# Altium footprint library X.PcbLib: 77 footprints (part 4 of 5)
Each footprint in its own frame and in the unit in brackets; x right, y up, seen from the top. Pads: shape width x height; smd on the part's side, far side on the other; paste and mask are expansions set on the pad; w line width, h text height; cw(c..) or ccw(c..) is an arc to the next point about the centre after c.
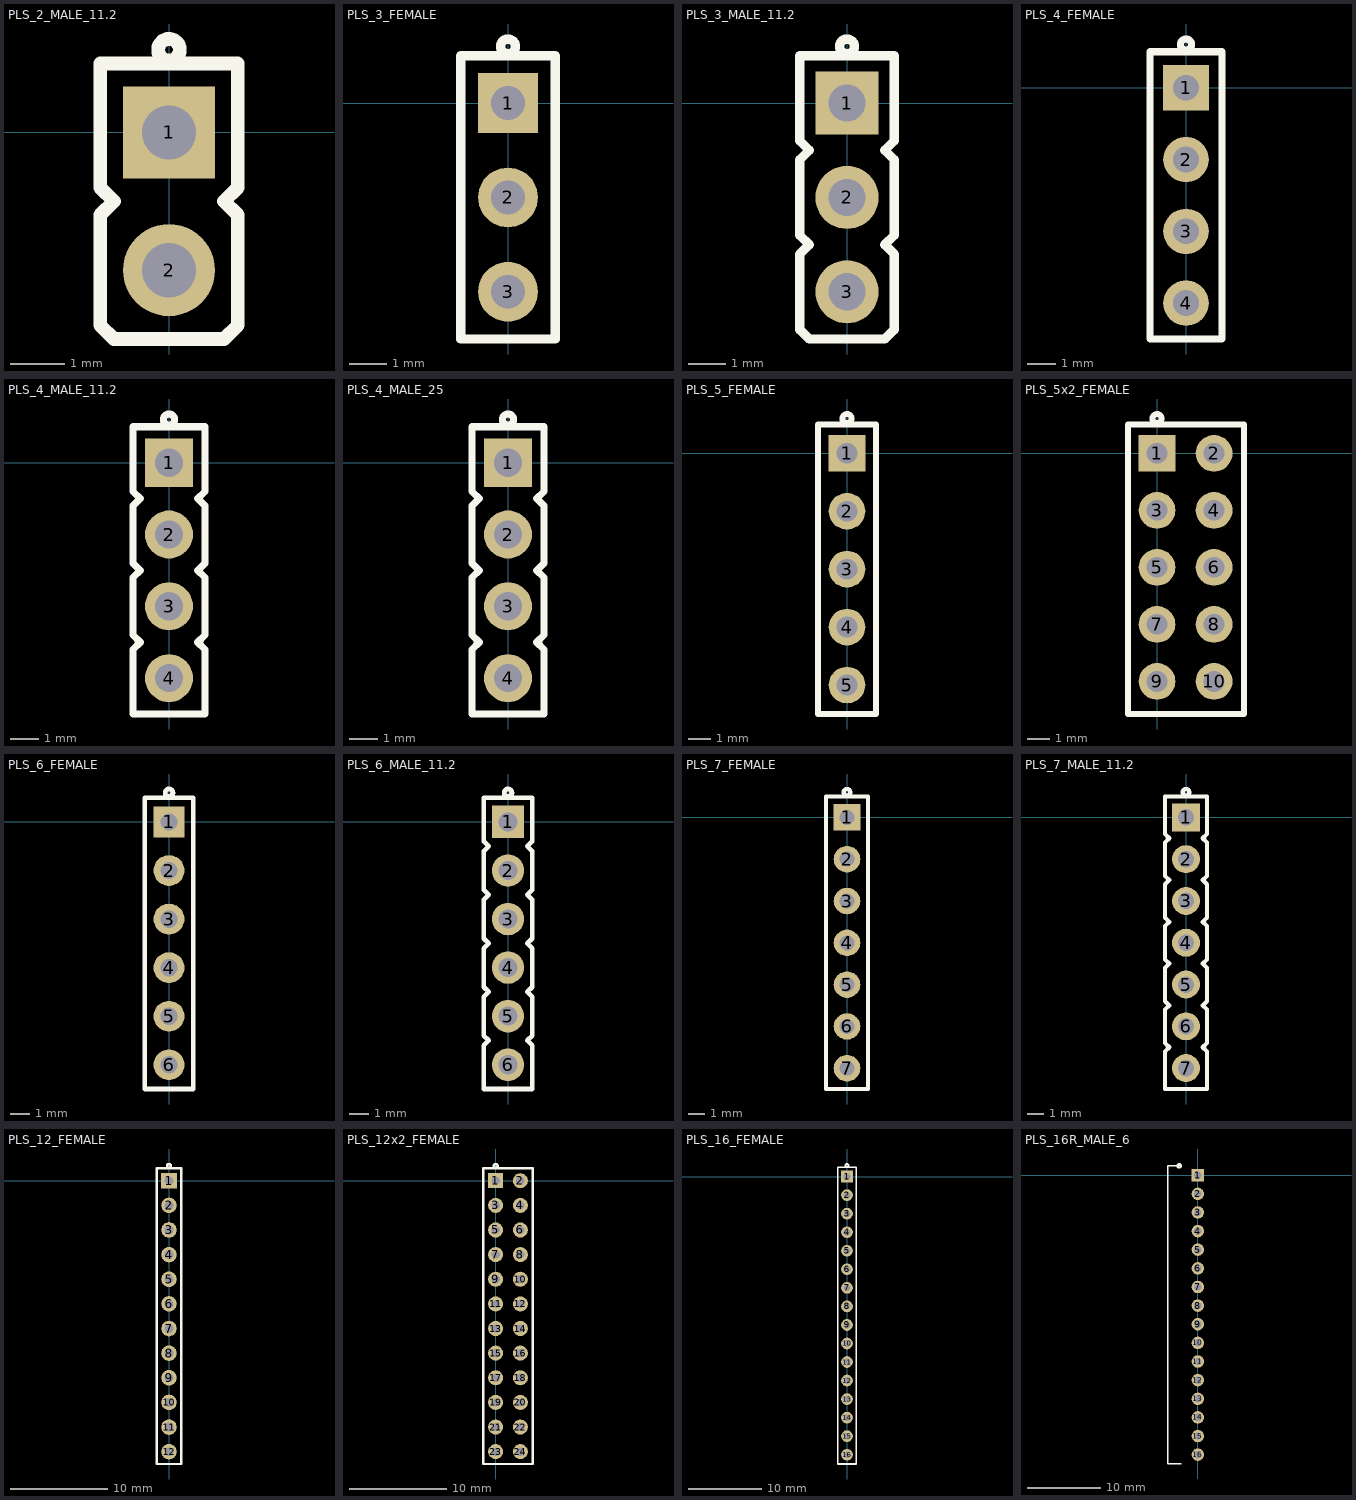
[diagram p3: the footprints below, top view; thin cyan lines are the x and y axes]

## PLS_2_MALE_11.2 [mm]
height 11.2
pads (2):
  rect 1.7x1.7 hole 1: 1(0,0)
  round 1.7 hole 1: 2(0,-2.54)
Top Overlay:
  circle w0.254: c0,1.524 r0.2
  lines w0.254: -1.27,-3.556 -1.016,-3.81 1.016,-3.81 1.27,-3.556 1.27,-1.524 1.016,-1.27 1.27,-1.016 1.27,1.27 -1.27,1.27 -1.27,-1.016 -1.016,-1.27 -1.27,-1.524 -1.27,-3.556
3D body: height 2, standoff 0, extent -1.27,-3.81 1.27,-1.27
3D body: height 11, standoff 0, extent -0.496,-3.039 0.5,-2.041
3D body: height 11, standoff 0, extent -0.496,-0.499 0.5,0.499
3D body: height 2, standoff 0, extent -1.27,-1.27 1.27,1.27

## PLS_3_FEMALE [mm]
pads (3):
  rect 1.61x1.61 hole 0.91: 1(0,0)
  round 1.61 hole 0.91: 2(0,-2.54) 3(0,-5.08)
Top Overlay:
  circle w0.254: c0,1.524 r0.2
  lines w0.254: -1.27,-6.35 1.27,-6.35 1.27,1.27 -1.27,1.27 -1.27,-6.35
3D body: height 8.5, standoff 0, extent -1.27,-6.35 -0.889,1.27
3D body: height 8.5, standoff 0, extent 0.889,-6.35 1.27,1.27
3D body: height 8.5, standoff 0, extent -1.016,1.016 1.016,1.27
3D body: height 8.5, standoff 0, extent -1.016,-1.397 1.016,-1.143
3D body: height 8.5, standoff 0, extent -1.016,-3.937 1.016,-3.683
3D body: height 8.5, standoff 0, extent -1.016,-6.35 1.016,-6.096

## PLS_3_MALE_11.2 [mm]
height 11.2
pads (3):
  rect 1.7x1.7 hole 1: 1(0,0)
  round 1.7 hole 1: 2(0,-2.54) 3(0,-5.08)
Top Overlay:
  circle w0.254: c0,1.524 r0.2
  lines w0.254: -1.27,-6.096 -1.016,-6.35 1.016,-6.35 1.27,-6.096 1.27,-4.064 1.016,-3.81 1.27,-3.556 1.27,-1.524 1.016,-1.27 1.27,-1.016 1.27,1.27 -1.27,1.27 -1.27,-1.016 -1.016,-1.27 -1.27,-1.524 -1.27,-3.556 -1.016,-3.81 -1.27,-4.064 -1.27,-6.096
3D body: height 2, standoff 0, extent -1.27,-6.35 1.27,-3.81
3D body: height 11, standoff 0, extent -0.496,-5.579 0.5,-4.581
3D body: height 2, standoff 0, extent -1.27,-3.81 1.27,-1.27
3D body: height 11, standoff 0, extent -0.496,-3.039 0.5,-2.041
3D body: height 11, standoff 0, extent -0.496,-0.499 0.5,0.499
3D body: height 2, standoff 0, extent -1.27,-1.27 1.27,1.27

## PLS_4_FEMALE [mm]
pads (4):
  rect 1.61x1.61 hole 0.91: 1(0,0)
  round 1.61 hole 0.91: 2(0,-2.54) 3(0,-5.08) 4(0,-7.62)
Top Overlay:
  circle w0.254: c0,1.524 r0.2
  lines w0.254: -1.27,-8.89 -1.27,1.27 1.27,1.27 1.27,-8.89 -1.27,-8.89
3D body: height 8.5, standoff 0, extent -1.27,-8.89 -0.889,1.27
3D body: height 8.5, standoff 0, extent 0.889,-8.89 1.27,1.27
3D body: height 8.5, standoff 0, extent -1.016,1.016 1.016,1.27
3D body: height 8.5, standoff 0, extent -1.016,-1.397 1.016,-1.143
3D body: height 8.5, standoff 0, extent -1.016,-3.937 1.016,-3.683
3D body: height 8.5, standoff 0, extent -1.016,-6.477 1.016,-6.223
3D body: height 8.5, standoff 0, extent -1.016,-8.89 1.016,-8.636

## PLS_4_MALE_11.2 [mm]
height 11.2
pads (4):
  rect 1.7x1.7 hole 1: 1(0,0)
  round 1.7 hole 1: 2(0,-2.54) 3(0,-5.08) 4(0,-7.62)
Top Overlay:
  circle w0.254: c0,1.524 r0.2
  lines w0.254: -1.27,-8.89 1.27,-8.89 1.27,-6.604 1.016,-6.35 1.27,-6.096 1.27,-4.064 1.016,-3.81 1.27,-3.556 1.27,-1.524 1.016,-1.27 1.27,-1.016 1.27,1.27 -1.27,1.27 -1.27,-1.016 -1.016,-1.27 -1.27,-1.524 -1.27,-3.556 -1.016,-3.81 -1.27,-4.064 -1.27,-6.096 -1.016,-6.35 -1.27,-6.604 -1.27,-8.89
3D body: height 2, standoff 0, extent -1.27,-8.89 1.27,-6.35
3D body: height 11, standoff 0, extent -0.496,-8.119 0.5,-7.121
3D body: height 2, standoff 0, extent -1.27,-6.35 1.27,-3.81
3D body: height 11, standoff 0, extent -0.496,-5.579 0.5,-4.581
3D body: height 2, standoff 0, extent -1.27,-3.81 1.27,-1.27
3D body: height 11, standoff 0, extent -0.496,-3.039 0.5,-2.041
3D body: height 11, standoff 0, extent -0.496,-0.499 0.5,0.499
3D body: height 2, standoff 0, extent -1.27,-1.27 1.27,1.27

## PLS_4_MALE_25 [mm]
height 25
pads (4):
  rect 1.7x1.7 hole 1: 1(0,0)
  round 1.7 hole 1: 2(0,-2.54) 3(0,-5.08) 4(0,-7.62)
Top Overlay:
  circle w0.254: c0,1.524 r0.2
  lines w0.254: -1.27,-8.89 1.27,-8.89 1.27,-6.604 1.016,-6.35 1.27,-6.096 1.27,-4.064 1.016,-3.81 1.27,-3.556 1.27,-1.524 1.016,-1.27 1.27,-1.016 1.27,1.27 -1.27,1.27 -1.27,-1.016 -1.016,-1.27 -1.27,-1.524 -1.27,-3.556 -1.016,-3.81 -1.27,-4.064 -1.27,-6.096 -1.016,-6.35 -1.27,-6.604 -1.27,-8.89
3D body: height 2, standoff 0, extent -1.27,-8.89 1.27,-6.35
3D body: height 25, standoff 0, extent -0.496,-8.119 0.5,-7.121
3D body: height 2, standoff 0, extent -1.27,-6.35 1.27,-3.81
3D body: height 25, standoff 0, extent -0.496,-5.579 0.5,-4.581
3D body: height 2, standoff 0, extent -1.27,-3.81 1.27,-1.27
3D body: height 25, standoff 0, extent -0.496,-3.039 0.5,-2.041
3D body: height 25, standoff 0, extent -0.496,-0.499 0.5,0.499
3D body: height 2, standoff 0, extent -1.27,-1.27 1.27,1.27

## PLS_5_FEMALE [mm]
pads (5):
  rect 1.61x1.61 hole 0.91: 1(0,0)
  round 1.61 hole 0.91: 2(0,-2.54) 3(0,-5.08) 4(0,-7.62) 5(0,-10.16)
Top Overlay:
  circle w0.254: c0,1.524 r0.2
  lines w0.254: -1.27,-11.43 1.27,-11.43 1.27,1.27 -1.27,1.27 -1.27,-11.43
3D body: height 8.5, standoff 0, extent -1.27,-11.43 -0.889,1.27
3D body: height 8.5, standoff 0, extent 0.889,-11.43 1.27,1.27
3D body: height 8.5, standoff 0, extent -1.016,1.016 1.016,1.27
3D body: height 8.5, standoff 0, extent -1.016,-1.397 1.016,-1.143
3D body: height 8.5, standoff 0, extent -1.016,-3.937 1.016,-3.683
3D body: height 8.5, standoff 0, extent -1.016,-6.477 1.016,-6.223
3D body: height 8.5, standoff 0, extent -1.016,-9.017 1.016,-8.763
3D body: height 8.5, standoff 0, extent -1.016,-11.43 1.016,-11.176

## PLS_5x2_FEMALE [mm]
pads (10):
  rect 1.61x1.61 hole 0.91: 1(0,0)
  round 1.61 hole 0.91: 2(2.5,0) 3(0,-2.5) 4(2.5,-2.5) 5(0,-5) 6(2.5,-5) 7(0,-7.5) 8(2.5,-7.5) 9(0,-10) 10(2.5,-10)
Top Overlay:
  circle w0.254: c0,1.524 r0.2
  lines w0.254: -1.27,-11.43 3.81,-11.43 3.81,1.27 -1.27,1.27 -1.27,-11.43
3D body: height 8.5, standoff 0, extent 1.27,-11.43 1.651,1.27
3D body: height 8.5, standoff 0, extent 3.429,-11.43 3.81,1.27
3D body: height 8.5, standoff 0, extent 1.524,1.016 3.556,1.27
3D body: height 8.5, standoff 0, extent 1.524,-1.397 3.556,-1.143
3D body: height 8.5, standoff 0, extent 1.524,-3.937 3.556,-3.683
3D body: height 8.5, standoff 0, extent 1.524,-6.477 3.556,-6.223
3D body: height 8.5, standoff 0, extent 1.524,-9.017 3.556,-8.763
3D body: height 8.5, standoff 0, extent 1.524,-11.43 3.556,-11.176
3D body: height 8.5, standoff 0, extent -1.27,-11.43 -0.889,1.27
3D body: height 8.5, standoff 0, extent 0.889,-11.43 1.27,1.27
3D body: height 8.5, standoff 0, extent -1.016,1.016 1.016,1.27
3D body: height 8.5, standoff 0, extent -1.016,-1.397 1.016,-1.143
3D body: height 8.5, standoff 0, extent -1.016,-3.937 1.016,-3.683
3D body: height 8.5, standoff 0, extent -1.016,-6.477 1.016,-6.223
3D body: height 8.5, standoff 0, extent -1.016,-9.017 1.016,-8.763
3D body: height 8.5, standoff 0, extent -1.016,-11.43 1.016,-11.176

## PLS_6_FEMALE [mm]
pads (6):
  rect 1.61x1.61 hole 0.91: 1(0,0)
  round 1.61 hole 0.91: 2(0,-2.54) 3(0,-5.08) 4(0,-7.62) 5(0,-10.16) 6(0,-12.7)
Top Overlay:
  circle w0.254: c0,1.524 r0.2
  lines w0.254: -1.27,-13.97 1.27,-13.97 1.27,1.27 -1.27,1.27 -1.27,-13.97
3D body: height 8.5, standoff 0, extent -1.27,-13.97 -0.889,1.27
3D body: height 8.5, standoff 0, extent 0.889,-13.97 1.27,1.27
3D body: height 8.5, standoff 0, extent -1.016,1.016 1.016,1.27
3D body: height 8.5, standoff 0, extent -1.016,-1.397 1.016,-1.143
3D body: height 8.5, standoff 0, extent -1.016,-3.937 1.016,-3.683
3D body: height 8.5, standoff 0, extent -1.016,-6.477 1.016,-6.223
3D body: height 8.5, standoff 0, extent -1.016,-9.017 1.016,-8.763
3D body: height 8.5, standoff 0, extent -1.016,-11.557 1.016,-11.303
3D body: height 8.5, standoff 0, extent -1.016,-13.97 1.016,-13.716

## PLS_6_MALE_11.2 [mm]
height 11.2
pads (6):
  rect 1.7x1.7 hole 1: 1(0,0)
  round 1.7 hole 1: 2(0,-2.54) 3(0,-5.08) 4(0,-7.62) 5(0,-10.16) 6(0,-12.7)
Top Overlay:
  circle w0.254: c0,1.524 r0.2
  lines w0.254: -1.27,-13.97 -1.27,-11.684 -1.016,-11.43 -1.27,-11.176 -1.27,-9.144 -1.016,-8.89 -1.27,-8.636 -1.27,-6.604 -1.016,-6.35 -1.27,-6.096 -1.27,-4.064 -1.016,-3.81 -1.27,-3.556 -1.27,-1.524 -1.016,-1.27 -1.27,-1.016 -1.27,1.27 1.27,1.27 1.27,-1.016 1.016,-1.27 1.27,-1.524 1.27,-3.556 1.016,-3.81 1.27,-4.064 1.27,-6.096 1.016,-6.35 1.27,-6.604 1.27,-8.636 1.016,-8.89 1.27,-9.144 1.27,-11.176 1.016,-11.43 1.27,-11.684 1.27,-13.97 -1.27,-13.97
3D body: height 2, standoff 0, extent -1.27,-1.27 1.27,1.27
3D body: height 11, standoff 0, extent -0.496,-0.499 0.5,0.499
3D body: height 11, standoff 0, extent -0.496,-3.039 0.5,-2.041
3D body: height 2, standoff 0, extent -1.27,-3.81 1.27,-1.27
3D body: height 11, standoff 0, extent -0.496,-5.579 0.5,-4.581
3D body: height 2, standoff 0, extent -1.27,-6.35 1.27,-3.81
3D body: height 11, standoff 0, extent -0.496,-13.199 0.5,-12.201
3D body: height 2, standoff 0, extent -1.27,-13.97 1.27,-11.43
3D body: height 11, standoff 0, extent -0.496,-8.119 0.5,-7.121
3D body: height 2, standoff 0, extent -1.27,-8.89 1.27,-6.35
3D body: height 11, standoff 0, extent -0.496,-10.659 0.5,-9.661
3D body: height 2, standoff 0, extent -1.27,-11.43 1.27,-8.89

## PLS_7_FEMALE [mm]
pads (7):
  rect 1.61x1.61 hole 0.91: 1(0,0)
  round 1.61 hole 0.91: 2(0,-2.54) 3(0,-5.08) 4(0,-7.62) 5(0,-10.16) 6(0,-12.7) 7(0,-15.24)
Top Overlay:
  circle w0.254: c0,1.524 r0.2
  lines w0.254: -1.27,-16.5 1.27,-16.5 1.27,1.27 -1.27,1.27 -1.27,-16.5
3D body: height 8.5, standoff 0, extent -1.016,-16.51 1.016,-16.256
3D body: height 8.5, standoff 0, extent -1.016,-14.224 1.016,-13.97
3D body: height 8.5, standoff 0, extent -1.016,-11.557 1.016,-11.303
3D body: height 8.5, standoff 0, extent -1.016,-9.017 1.016,-8.763
3D body: height 8.5, standoff 0, extent -1.016,-6.477 1.016,-6.223
3D body: height 8.5, standoff 0, extent -1.016,-3.937 1.016,-3.683
3D body: height 8.5, standoff 0, extent -1.016,-1.397 1.016,-1.143
3D body: height 8.5, standoff 0, extent -1.016,1.016 1.016,1.27
3D body: height 8.5, standoff 0, extent 0.889,-16.51 1.27,1.27
3D body: height 8.5, standoff 0, extent -1.27,-16.5 -0.889,1.27

## PLS_7_MALE_11.2 [mm]
height 11.2
pads (7):
  rect 1.7x1.7 hole 1: 1(0,0)
  round 1.7 hole 1: 2(0,-2.54) 3(0,-5.08) 4(0,-7.62) 5(0,-10.16) 6(0,-12.7) 7(0,-15.24)
Top Overlay:
  circle w0.254: c0,1.524 r0.2
  lines w0.254: -1.27,-16.51 1.27,-16.51 1.27,-14.224 1.016,-13.97 1.27,-13.716 1.27,-11.684 1.016,-11.43 1.27,-11.176 1.27,-9.144 1.016,-8.89 1.27,-8.636 1.27,-6.604 1.016,-6.35 1.27,-6.096 1.27,-4.064 1.016,-3.81 1.27,-3.556 1.27,-1.524 1.016,-1.27 1.27,-1.016 1.27,1.27 -1.27,1.27 -1.27,-1.016 -1.016,-1.27 -1.27,-1.524 -1.27,-3.556 -1.016,-3.81 -1.27,-4.064 -1.27,-6.096 -1.016,-6.35 -1.27,-6.604 -1.27,-8.636 -1.016,-8.89 -1.27,-9.144 -1.27,-11.176 -1.016,-11.43 -1.27,-11.684 -1.27,-13.716 -1.016,-13.97 -1.27,-14.224 -1.27,-16.51
3D body: height 2, standoff 0, extent -1.27,-11.43 1.27,-8.89
3D body: height 11, standoff 0, extent -0.496,-10.659 0.5,-9.661
3D body: height 2, standoff 0, extent -1.27,-8.89 1.27,-6.35
3D body: height 11, standoff 0, extent -0.496,-8.119 0.5,-7.121
3D body: height 2, standoff 0, extent -1.27,-16.51 1.27,-13.97
3D body: height 11, standoff 0, extent -0.496,-15.739 0.5,-14.741
3D body: height 2, standoff 0, extent -1.27,-6.35 1.27,-3.81
3D body: height 11, standoff 0, extent -0.496,-5.579 0.5,-4.581
3D body: height 2, standoff 0, extent -1.27,-3.81 1.27,-1.27
3D body: height 11, standoff 0, extent -0.496,-3.039 0.5,-2.041
3D body: height 11, standoff 0, extent -0.496,-0.499 0.5,0.499
3D body: height 2, standoff 0, extent -1.27,-1.27 1.27,1.27
3D body: height 2, standoff 0, extent -1.27,-13.97 1.27,-11.43
3D body: height 11, standoff 0, extent -0.496,-13.199 0.5,-12.201

## PLS_12_FEMALE [mm]
pads (12):
  rect 1.61x1.61 hole 0.91: 1(0,0)
  round 1.61 hole 0.91: 2(0,-2.54) 3(0,-5.08) 4(0,-7.62) 5(0,-10.16) 6(0,-12.7) 7(0,-15.24) 8(0,-17.78) 9(0,-20.32) 10(0,-22.86) 11(0,-25.4) 12(0,-27.94)
Top Overlay:
  circle w0.254: c0,1.524 r0.2
  lines w0.254: -1.27,-29.21 1.27,-29.21 1.27,1.27 -1.27,1.27 -1.27,-29.21
3D body: height 8.5, standoff 0, extent -1.27,-29.21 -0.889,1.27
3D body: height 8.5, standoff 0, extent 0.889,-29.21 1.27,1.27
3D body: height 8.5, standoff 0, extent -1.016,1.016 1.016,1.27
3D body: height 8.5, standoff 0, extent -1.016,-1.397 1.016,-1.143
3D body: height 8.5, standoff 0, extent -1.016,-3.937 1.016,-3.683
3D body: height 8.5, standoff 0, extent -1.016,-6.477 1.016,-6.223
3D body: height 8.5, standoff 0, extent -1.016,-9.017 1.016,-8.763
3D body: height 8.5, standoff 0, extent -1.016,-11.557 1.016,-11.303
3D body: height 8.5, standoff 0, extent -1.016,-14.224 1.016,-13.97
3D body: height 8.5, standoff 0, extent -1.016,-16.637 1.016,-16.383
3D body: height 8.5, standoff 0, extent -1.016,-19.177 1.016,-18.923
3D body: height 8.5, standoff 0, extent -1.016,-21.717 1.016,-21.463
3D body: height 8.5, standoff 0, extent -1.016,-24.257 1.016,-24.003
3D body: height 8.5, standoff 0, extent -1.016,-26.797 1.016,-26.543
3D body: height 8.5, standoff 0, extent -1.016,-29.21 1.016,-28.956

## PLS_12x2_FEMALE [mm]
pads (24):
  rect 1.55x1.55 hole 0.85: 1(0,0)
  round 1.55 hole 0.85: 2(2.54,0) 3(0,-2.54) 4(2.54,-2.54) 5(0,-5.08) 6(2.54,-5.08) 7(0,-7.62) 8(2.54,-7.62) 9(0,-10.16) 10(2.54,-10.16) 11(0,-12.7) 12(2.54,-12.7) 13(0,-15.24) 14(2.54,-15.24) 15(0,-17.78) 16(2.54,-17.78) 17(0,-20.32) 18(2.54,-20.32) 19(0,-22.86) 20(2.54,-22.86) 21(0,-25.4) 22(2.54,-25.4) 23(0,-27.94) 24(2.54,-27.94)
Top Overlay:
  circle w0.254: c0,1.524 r0.2
  lines w0.254: -1.27,-29.21 3.81,-29.21 3.81,1.27 -1.27,1.27 -1.27,-29.21
3D body: height 8.5, standoff 0, extent -1.27,-29.21 -0.889,1.27
3D body: height 8.5, standoff 0, extent 0.889,-29.21 1.27,1.27
3D body: height 8.5, standoff 0, extent -1.016,1.016 1.016,1.27
3D body: height 8.5, standoff 0, extent -1.016,-1.27 1.016,-1.016
3D body: height 8.5, standoff 0, extent -1.016,-3.81 1.016,-3.556
3D body: height 8.5, standoff 0, extent -1.016,-6.35 1.016,-6.096
3D body: height 8.5, standoff 0, extent -1.016,-8.89 1.016,-8.636
3D body: height 8.5, standoff 0, extent -1.016,-11.43 1.016,-11.176
3D body: height 8.5, standoff 0, extent -1.016,-14.097 1.016,-13.843
3D body: height 8.5, standoff 0, extent -1.016,-16.51 1.016,-16.256
3D body: height 8.5, standoff 0, extent -1.016,-19.05 1.016,-18.796
3D body: height 8.5, standoff 0, extent -1.016,-21.59 1.016,-21.336
3D body: height 8.5, standoff 0, extent -1.016,-24.13 1.016,-23.876
3D body: height 8.5, standoff 0, extent -1.016,-26.67 1.016,-26.416
3D body: height 8.5, standoff 0, extent -1.016,-29.21 1.016,-28.956
3D body: height 8.5, standoff 0, extent 1.27,-29.21 1.651,1.27
3D body: height 8.5, standoff 0, extent 3.429,-29.21 3.81,1.27
3D body: height 8.5, standoff 0, extent 1.524,1.016 3.556,1.27
3D body: height 8.5, standoff 0, extent 1.524,-1.27 3.556,-1.016
3D body: height 8.5, standoff 0, extent 1.524,-3.81 3.556,-3.556
3D body: height 8.5, standoff 0, extent 1.524,-6.35 3.556,-6.096
3D body: height 8.5, standoff 0, extent 1.524,-8.89 3.556,-8.636
3D body: height 8.5, standoff 0, extent 1.524,-11.43 3.556,-11.176
3D body: height 8.5, standoff 0, extent 1.524,-14.097 3.556,-13.843
3D body: height 8.5, standoff 0, extent 1.524,-16.51 3.556,-16.256
3D body: height 8.5, standoff 0, extent 1.524,-19.05 3.556,-18.796
3D body: height 8.5, standoff 0, extent 1.524,-21.59 3.556,-21.336
3D body: height 8.5, standoff 0, extent 1.524,-24.13 3.556,-23.876
3D body: height 8.5, standoff 0, extent 1.524,-26.67 3.556,-26.416
3D body: height 8.5, standoff 0, extent 1.524,-29.21 3.556,-28.956

## PLS_16_FEMALE [mm]
pads (16):
  rect 1.61x1.61 hole 0.91: 1(0,0)
  round 1.61 hole 0.91: 2(0,-2.54) 3(0,-5.08) 4(0,-7.62) 5(0,-10.16) 6(0,-12.7) 7(0,-15.24) 8(0,-17.78) 9(0,-20.32) 10(0,-22.86) 11(0,-25.4) 12(0,-27.94) 13(0,-30.48) 14(0,-33.02) 15(0,-35.56) 16(0,-38.1)
Top Overlay:
  circle w0.254: c0,1.524 r0.2
  lines w0.254: -1.27,-39.37 -1.27,1.27 1.27,1.27 1.27,-39.37 -1.27,-39.37
3D body: height 8.5, standoff 0, extent -1.016,-39.37 1.016,-39.116
3D body: height 8.5, standoff 0, extent -1.016,-36.576 1.016,-36.322
3D body: height 8.5, standoff 0, extent -1.016,-34.036 1.016,-33.782
3D body: height 8.5, standoff 0, extent -1.016,-31.496 1.016,-31.242
3D body: height 8.5, standoff 0, extent -1.016,-29.337 1.016,-29.083
3D body: height 8.5, standoff 0, extent 0.889,-39.37 1.27,-28.829
3D body: height 8.5, standoff 0, extent -1.27,-39.37 -0.889,-28.829
3D body: height 8.5, standoff 0, extent -1.016,-26.797 1.016,-26.543
3D body: height 8.5, standoff 0, extent -1.016,-24.257 1.016,-24.003
3D body: height 8.5, standoff 0, extent -1.016,-21.717 1.016,-21.463
3D body: height 8.5, standoff 0, extent -1.016,-19.177 1.016,-18.923
3D body: height 8.5, standoff 0, extent -1.016,-16.637 1.016,-16.383
3D body: height 8.5, standoff 0, extent -1.016,-14.224 1.016,-13.97
3D body: height 8.5, standoff 0, extent -1.016,-11.557 1.016,-11.303
3D body: height 8.5, standoff 0, extent -1.016,-9.017 1.016,-8.763
3D body: height 8.5, standoff 0, extent -1.016,-6.477 1.016,-6.223
3D body: height 8.5, standoff 0, extent -1.016,-3.937 1.016,-3.683
3D body: height 8.5, standoff 0, extent -1.016,-1.397 1.016,-1.143
3D body: height 8.5, standoff 0, extent -1.016,0.889 1.016,1.27
3D body: height 8.5, standoff 0, extent 0.889,-29.21 1.27,1.27
3D body: height 8.5, standoff 0, extent -1.27,-29.21 -0.889,1.27

## PLS_16R_MALE_6 [mm] "CONN HEADER R/A 16POS 2.54MM"
height 11.2
pads (16):
  rect 1.7x1.7 hole 1: 1(0,0)
  round 1.7 hole 1: 2(0,-2.54) 3(0,-5.08) 4(0,-7.62) 5(0,-10.16) 6(0,-12.7) 7(0,-15.24) 8(0,-17.78) 9(0,-20.32) 10(0,-22.86) 11(0,-25.4) 12(0,-27.94) 13(0,-30.48) 14(0,-33.02) 15(0,-35.56) 16(0,-38.1)
Top Overlay:
  circle w0.254: c-2.54,1.27 r0.254
  lines w0.2: -2.286,-39.37 -4.064,-39.37 -4.064,-36.83 -4.064,-34.29 -4.064,-31.75 -4.064,-29.21 -4.064,-26.67 -4.064,-24.13 -4.064,-21.59 -4.064,-19.05 -4.064,-16.51 -4.064,-13.97 -4.064,-11.43 -4.064,-8.89 -4.064,-6.35 -4.064,-3.81 -4.064,-1.27 -4.064,1.27 -2.286,1.27
3D body: height 1.59, standoff 0, extent -0.33,-0.33 0.33,0.33
3D body: height 1.59, standoff 0, extent -0.33,-10.49 0.33,-9.83
3D body: height 1.59, standoff 0, extent -0.33,-20.65 0.33,-19.99
3D body: height 1.59, standoff 0, extent -0.33,-30.81 0.33,-30.15
3D body: height 1.59, standoff 0, extent -0.33,-2.87 0.33,-2.21
3D body: height 1.59, standoff 0, extent -0.33,-5.41 0.33,-4.75
3D body: height 1.59, standoff 0, extent -0.33,-7.95 0.33,-7.29
3D body: height 1.59, standoff 0, extent -0.33,-13.03 0.33,-12.37
3D body: height 1.59, standoff 0, extent -0.33,-15.57 0.33,-14.91
3D body: height 1.59, standoff 0, extent -0.33,-18.11 0.33,-17.45
3D body: height 1.59, standoff 0, extent -0.33,-23.19 0.33,-22.53
3D body: height 1.59, standoff 0, extent -0.33,-25.73 0.33,-25.07
3D body: height 1.59, standoff 0, extent -0.33,-28.27 0.33,-27.61
3D body: height 1.59, standoff 0, extent -0.33,-33.35 0.33,-32.69
3D body: height 1.59, standoff 0, extent -0.33,-35.89 0.33,-35.23
3D body: height 1.59, standoff 0, extent -0.33,-38.43 0.33,-37.77
3D body: height 1.59, standoff 0.95, extent -10.16,-0.33 0,0.33
3D body: height 1.59, standoff 0.95, extent -10.16,-10.49 0,-9.83
3D body: height 1.59, standoff 0.95, extent -10.16,-20.65 0,-19.99
3D body: height 1.59, standoff 0.95, extent -10.16,-30.81 0,-30.15
3D body: height 1.59, standoff 0.95, extent -10.16,-2.87 0,-2.21
3D body: height 1.59, standoff 0.95, extent -10.16,-5.41 0,-4.75
3D body: height 1.59, standoff 0.95, extent -10.16,-7.95 0,-7.29
3D body: height 1.59, standoff 0.95, extent -10.16,-13.03 0,-12.37
3D body: height 1.59, standoff 0.95, extent -10.16,-15.57 0,-14.91
3D body: height 1.59, standoff 0.95, extent -10.16,-18.11 0,-17.45
3D body: height 1.59, standoff 0.95, extent -10.16,-23.19 0,-22.53
3D body: height 1.59, standoff 0.95, extent -10.16,-25.73 0,-25.07
3D body: height 1.59, standoff 0.95, extent -10.16,-28.27 0,-27.61
3D body: height 1.59, standoff 0.95, extent -10.16,-33.35 0,-32.69
3D body: height 1.59, standoff 0.95, extent -10.16,-35.89 0,-35.23
3D body: height 1.59, standoff 0.95, extent -10.16,-38.43 0,-37.77
3D body: height 2.54, standoff 0, extent -4.064,-39.37 -1.5,-36.83
3D body: height 2.54, standoff 0, extent -4.064,-36.83 -1.5,-34.29
3D body: height 2.54, standoff 0, extent -4.064,-34.29 -1.5,-31.75
3D body: height 2.54, standoff 0, extent -4.064,-31.75 -1.5,-29.21
3D body: height 2.54, standoff 0, extent -4.064,-29.21 -1.5,-26.67
3D body: height 2.54, standoff 0, extent -4.064,-26.67 -1.5,-24.13
3D body: height 2.54, standoff 0, extent -4.064,-24.13 -1.5,-21.59
3D body: height 2.54, standoff 0, extent -4.064,-21.59 -1.5,-19.05
3D body: height 2.54, standoff 0, extent -4.064,-19.05 -1.5,-16.51
3D body: height 2.54, standoff 0, extent -4.064,-16.51 -1.5,-13.97
3D body: height 2.54, standoff 0, extent -4.064,-13.97 -1.5,-11.43
3D body: height 2.54, standoff 0, extent -4.064,-11.43 -1.5,-8.89
3D body: height 2.54, standoff 0, extent -4.064,-8.89 -1.5,-6.35
3D body: height 2.54, standoff 0, extent -4.064,-6.35 -1.5,-3.81
3D body: height 2.54, standoff 0, extent -4.064,-3.81 -1.5,-1.27
3D body: height 2.54, standoff 0, extent -4.064,-1.27 -1.5,1.27
3D body: height 11, standoff 0, extent 5.08,0 5.08,0